# EAGLE library part BMA253 (library IoTMakers)
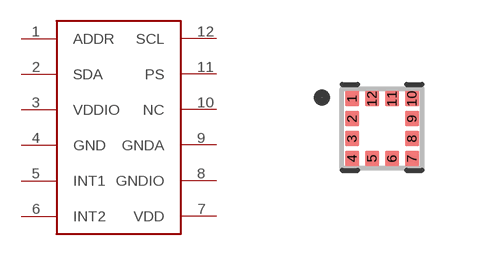
[diagram p11: symbol with the pads of LGA-12; footprint LGA-12]

Designator prefix -

## BMA253  [LGA-12]
1  ADDR
2  SDA
3  VDDIO
4  GND
5  INT1
6  INT2
7  VDD
8  GNDIO
9  GNDA
10  NC
11  PS
12  SCL

## Footprint LGA-12 (pad centres in mm)
smd 0.35 x 0.375: 1 -0.75,0.75; 2 -0.75,0.25; 3 -0.75,-0.25; 4 -0.75,-0.75; 5 -0.25,-0.75; 6 0.25,-0.75; 7 0.75,-0.75; 8 0.75,-0.25; 9 0.75,0.25; 10 0.75,0.75; 11 0.25,0.75; 12 -0.25,0.75